# Altium footprint library Basic Board.PcbLib: 1 footprints
Each footprint in its own frame and in the unit in brackets; x right, y up, seen from the top. Pads: shape width x height; smd on the part's side, far side on the other; paste and mask are expansions set on the pad; w line width, h text height; cw(c..) or ccw(c..) is an arc to the next point about the centre after c.
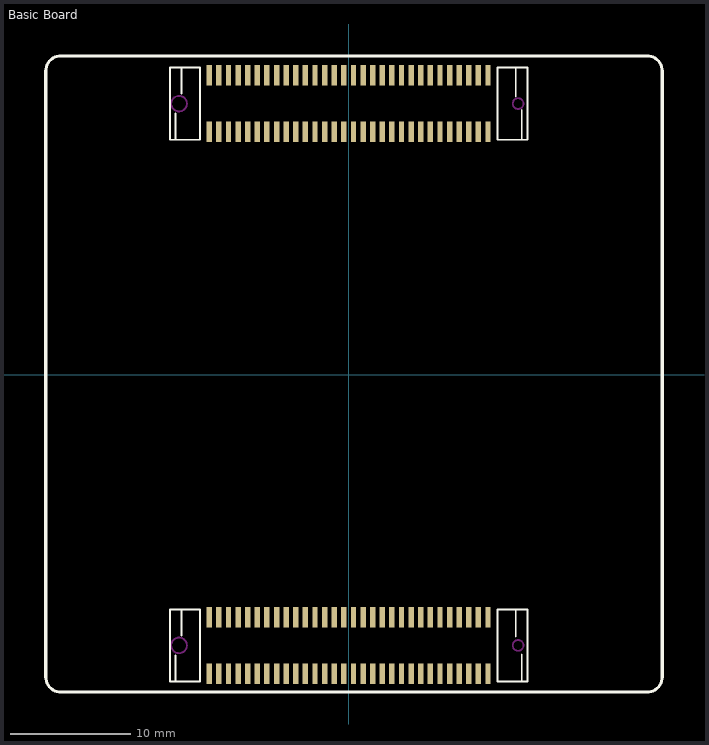
[diagram p0: the footprint, top view; thin cyan lines are the x and y axes]

## Basic Board [mm]
pads (120):
  rect 0.45x1.7 smd: 1(-11.6,24.893) 2(-10.8,24.893) 3(-10,24.893) 4(-9.2,24.893) 5(-8.4,24.893) 6(-7.6,24.893) 7(-6.8,24.893) 8(-6,24.893) 9(-5.2,24.893) 10(-4.4,24.893) 11(-3.6,24.893) 12(-2.8,24.893) 13(-2,24.893) 14(-1.2,24.893) 15(-0.4,24.893) 16(0.4,24.893) 17(1.2,24.893) 18(2,24.893) 19(2.8,24.893) 20(3.6,24.893) 21(4.4,24.893) 22(5.2,24.893) 23(6,24.893) 24(6.8,24.893) 25(7.6,24.893) 26(8.4,24.893) 27(9.2,24.893) 28(10,24.893) 29(10.8,24.893) 30(11.6,24.893) 31(11.6,20.192) 32(10.8,20.192) 33(10,20.192) 34(9.2,20.192) 35(8.4,20.192) 36(7.6,20.192) 37(6.8,20.192) 38(6,20.192) 39(5.2,20.192) 40(4.4,20.192) 41(3.6,20.192) 42(2.8,20.192) 43(2,20.192) 44(1.2,20.192) 45(0.4,20.192) 46(-0.4,20.192) 47(-1.2,20.192) 48(-2,20.192) 49(-2.8,20.192) 50(-3.6,20.192) 51(-4.4,20.192) 52(-5.2,20.192) 53(-6,20.192) 54(-6.8,20.192) 55(-7.6,20.192) 56(-8.4,20.192) 57(-9.2,20.192) 58(-10,20.192) 59(-10.8,20.192) 60(-11.6,20.192) 61(-11.6,-20.192) 62(-10.8,-20.192) 63(-10,-20.192) 64(-9.2,-20.192) 65(-8.4,-20.192) 66(-7.6,-20.192) 67(-6.8,-20.192) 68(-6,-20.192) 69(-5.2,-20.192) 70(-4.4,-20.192) 71(-3.6,-20.192) 72(-2.8,-20.192) 73(-2,-20.192) 74(-1.2,-20.192) 75(-0.4,-20.192) 76(0.4,-20.192) 77(1.2,-20.192) 78(2,-20.192) 79(2.8,-20.192) 80(3.6,-20.192) 81(4.4,-20.192) 82(5.2,-20.192) 83(6,-20.192) 84(6.8,-20.192) 85(7.6,-20.192) 86(8.4,-20.192) 87(9.2,-20.192) 88(10,-20.192) 89(10.8,-20.192) 90(11.6,-20.192) 91(11.6,-24.893) 92(10.8,-24.893) 93(10,-24.893) 94(9.2,-24.893) 95(8.4,-24.893) 96(7.6,-24.893) 97(6.8,-24.893) 98(6,-24.893) 99(5.2,-24.893) 100(4.4,-24.893) 101(3.6,-24.893) 102(2.8,-24.893) 103(2,-24.893) 104(1.2,-24.893) 105(0.4,-24.893) 106(-0.4,-24.893) 107(-1.2,-24.893) 108(-2,-24.893) 109(-2.8,-24.893) 110(-3.6,-24.893) 111(-4.4,-24.893) 112(-5.2,-24.893) 113(-6,-24.893) 114(-6.8,-24.893) 115(-7.6,-24.893) 116(-8.4,-24.893) 117(-9.2,-24.893) 118(-10,-24.893) 119(-10.8,-24.893) 120(-11.6,-24.893)
Top Overlay:
  lines w0.127: 13.9,23.114 13.9,23.293 ; 14.4,21.793 14.4,22.02
  lines w0.152: -14.4,-25.542 -14.4,-23.368 ; -14.4,19.543 -14.4,21.717 ; -13.9,-21.717 -13.9,-19.542 ; -13.9,23.368 -13.9,25.543 ; -12.375,-19.567 -12.375,-25.542 -14.875,-25.542 -14.875,-19.542 -12.375,-19.542 ; -12.375,25.518 -12.375,19.543 -14.875,19.543 -14.875,25.543 -12.375,25.543 ; 13.9,-21.792 13.9,-19.542 ; 13.9,23.293 13.9,25.543 ; 14.4,-25.542 14.4,-23.292 ; 14.4,19.543 14.4,21.793 ; 12.375,-25.542 12.375,-19.542 14.875,-19.542 14.875,-25.542 12.375,-25.542 ; 12.375,19.543 12.375,25.543 14.875,25.543 14.875,19.543 12.375,19.543
  lines w0.254: 24.829,26.522 cw(c24.829,25.252) 26.099,25.252 26.099,13.283 26.099,10.139 26.099,-8.784 26.099,-13.197 26.099,-25.167 cw(c24.829,-25.167) 24.829,-26.437 -23.939,-26.437 cw(c-23.939,-25.167) -25.209,-25.167 -25.209,25.252 cw(c-23.939,25.253) -23.939,26.523 24.956,26.522
Keep-Out Layer:
  circle w0.152: c14.102,22.543 r0.45
  circle w0.152: c-14.112,22.543 r0.65
  circle w0.152: c-14.112,-22.542 r0.65
  circle w0.152: c14.102,-22.543 r0.45